# EAGLE library part 74*12 (library 74xx-eu)
Triple 3-input NAND gate, open collector
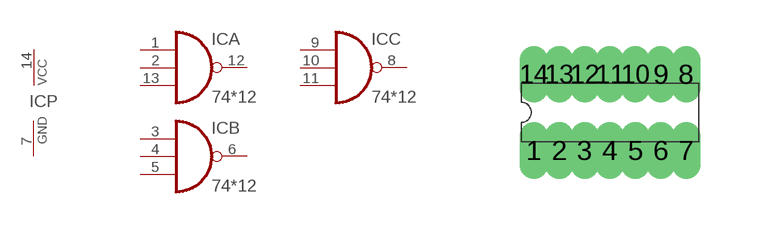
[diagram p12: symbol with the pads of DIL14; footprint DIL14]

Designator prefix IC; gates A=7412 B=7412 C=7412 P=PWRN

## 7412N, 74LS12N  [DIL14]
1  A:I0  in
2  A:I1  in
3  B:I0  in
4  B:I1  in
5  B:I2  in
6  B:O  oc
7  P:GND  pwr
8  C:O  oc
9  C:I0  in
10  C:I1  in
11  C:I2  in
12  A:O  oc
13  A:I2  in
14  P:VCC  pwr

## Footprint DIL14 (pad centres in mm)
Dual In Line Package
drill 0.203 long: 1 -1.905,-0.953; 2 -1.27,-0.953; 3 -0.635,-0.953; 4 0,-0.953; 5 0.635,-0.953; 6 1.27,-0.953; 7 1.905,-0.953; 8 1.905,0.953; 9 1.27,0.953; 10 0.635,0.953; 11 0,0.953; 12 -0.635,0.953; 13 -1.27,0.953; 14 -1.905,0.953